# Altium schematic symbol library My_Lib.SchLib: 12 symbols
Pins are listed as number, name and electrical type; pins without a type are passive.

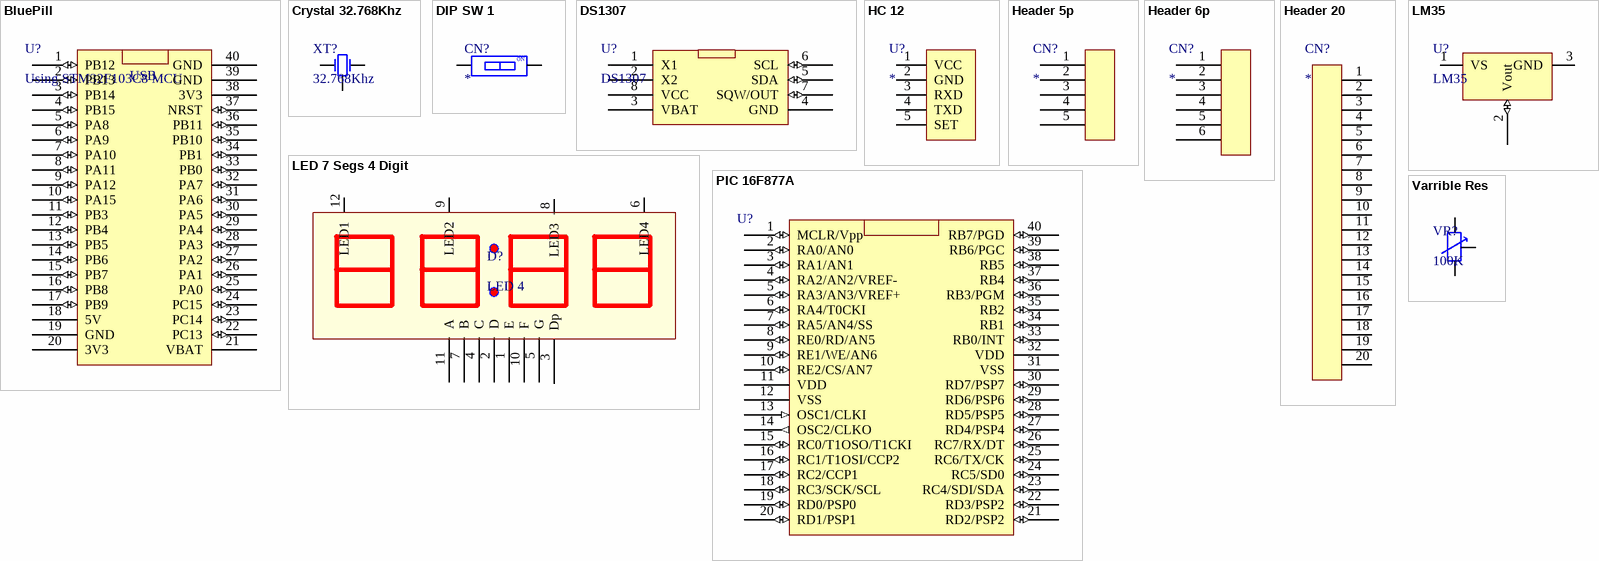
[diagram p0: symbols BluePill to Varrible Res]

## BluePill
designator U?, comment Using STM32F103C8 MCU
footprint STM32 BluePill
pins: 1 PB12 (io), 2 PB13 (io), 3 PB14 (io), 4 PB15 (io), 5 PA8 (io), 6 PA9 (io), 7 PA10 (io), 8 PA11 (io), 9 PA12 (io), 10 PA15 (io), 11 PB3 (io), 12 PB4 (io), 13 PB5 (io), 14 PB6 (io), 15 PB7 (io), 16 PB8 (io), 17 PB9 (io), 18 5V (power), 19 GND (power), 20 3V3 (power), 21 VBAT (power), 22 PC13 (io), 23 PC14 (io), 24 PC15 (io), 25 PA0 (io), 26 PA1 (io), 27 PA2 (io), 28 PA3 (io), 29 PA4 (io), 30 PA5 (io), 31 PA6 (io), 32 PA7 (io), 33 PB0 (io), 34 PB1 (io), 35 PB10 (io), 36 PB11 (io), 37 NRST (io), 38 3V3 (power), 39 GND (power), 40 GND (power)
text: USB

## Crystal 32.768Khz
designator XT?, comment 32.768Khz
footprint CRYSTAL 32.768KHZ
pins: 1 OSC1, 2 OSC2, 3

## DIP SW 1
designator CN?
footprint DIPSW1
pins: 1 0, 2
text: ON

## DS1307
designator U?
footprint DIP8
pins: 1 X1, 2 X2, 3 VBAT (power), 4 GND (power), 5 SDA (io), 6 SCL (io), 7 SQW/OUT (io), 8 VCC (power)

## HC 12
designator U?
footprint HC 12
pins: 1 VCC, 2 GND, 3 RXD, 4 TXD, 5 SET

## Header 5p
designator CN?
footprint HEADER 5P MALE
pins: 1, 2, 3, 4, 5

## Header 6p
designator CN?
footprint HEADER 6P Female
pins: 1, 2, 3, 4, 5, 6

## Header 20
designator CN?
footprint Header 20
pins: 1, 2, 3, 4, 5, 6, 7, 8, 9, 10, 11, 12, 13, 14, 15, 16, 17, 18, 19, 20

## LED 7 Segs 4 Digit
designator D?, comment LED 4
Anode
footprint LED 7 SEGS 4 DIGIT
pins: 1 E, 2 D, 3 Dp, 4 C, 5 G, 6 LED4, 7 B, 8 LED3, 9 LED2, 10 F, 11 A, 12 LED1

## LM35
designator U?
Temperature Sensor
footprint TO92
pins: 1 VS (power), 2 Vout (io), 3 GND (power)

## PIC 16F877A
designator U?, comment MCU 8 bit  (value not drawn)
footprint DIP40
pins: 1 MCLR/Vpp (io), 2 RA0/AN0 (io), 3 RA1/AN1 (io), 4 RA2/AN2/VREF- (io), 5 RA3/AN3/VREF+ (io), 6 RA4/T0CKI (io), 7 RA5/AN4/SS (io), 8 RE0/RD/AN5 (io), 9 RE1/WE/AN6 (io), 10 RE2/CS/AN7 (io), 11 VDD (power), 12 VSS (power), 13 OSC1/CLKI (in), 14 OSC2/CLKO (out), 15 RC0/T1OSO/T1CKI (io), 16 RC1/T1OSI/CCP2 (io), 17 RC2/CCP1 (io), 18 RC3/SCK/SCL (io), 19 RD0/PSP0 (io), 20 RD1/PSP1 (io), 21 RD2/PSP2 (io), 22 RD3/PSP2 (io), 23 RC4/SDI/SDA (io), 24 RC5/SD0 (io), 25 RC6/TX/CK (io), 26 RC7/RX/DT (io), 27 RD4/PSP4 (io), 28 RD5/PSP5 (io), 29 RD6/PSP6 (io), 30 RD7/PSP7 (io), 31 VSS (power), 32 VDD (power), 33 RB0/INT (io), 34 RB1 (io), 35 RB2 (io), 36 RB3/PGM (io), 37 RB4 (io), 38 RB5 (io), 39 RB6/PGC (io), 40 RB7/PGD (io)

## Varrible Res
designator VR?, comment 100K
footprint VRES TOP
footprint Model Name (Footprint not found)
pins: 1 3, 2, 3